# Altium footprint library ECSTXO25CSMV320AMTR.PcbLib: 1 footprints
Each footprint in its own frame and in the unit in brackets; x right, y up, seen from the top. Pads: shape width x height; smd on the part's side, far side on the other; paste and mask are expansions set on the pad; w line width, h text height; cw(c..) or ccw(c..) is an arc to the next point about the centre after c.
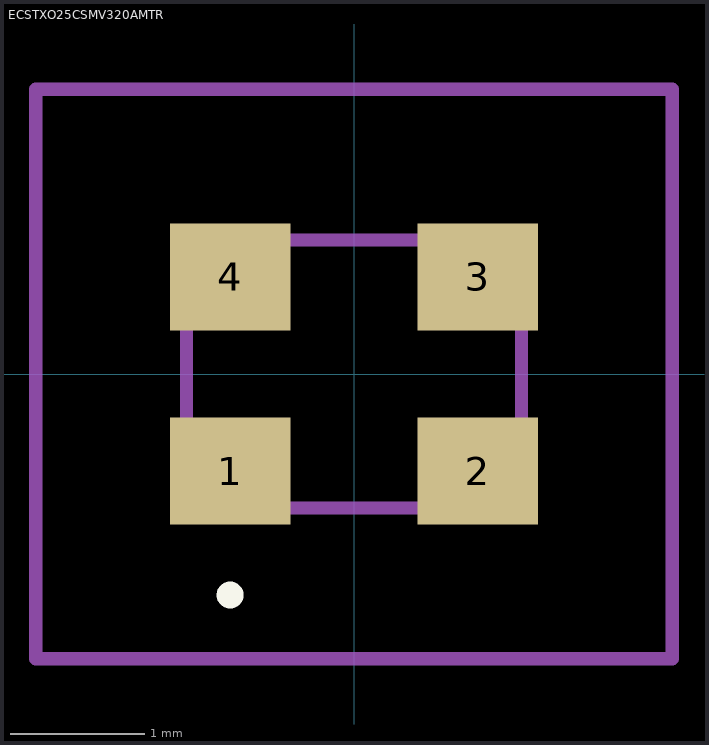
[diagram p0: the footprint, top view; thin cyan lines are the x and y axes]

## ECSTXO25CSMV320AMTR [mm]
pads (4):
  rect 0.9x0.8 smd: 1(-0.925,-0.725) 2(0.925,-0.725) 3(0.925,0.725) 4(-0.925,0.725)
Top Overlay:
  lines w0.1: -0.925,-1.7 cw(c-0.925,-1.65) -0.925,-1.6 ; -0.925,-1.7 -0.925,-1.7 ; -0.925,-1.7 ccw(c-0.925,-1.65) -0.925,-1.6 ; -0.925,-1.6 -0.925,-1.6
Mechanical 15:
  lines w0.1: -1.25,-1 1.25,-1 1.25,1 -1.25,1 -1.25,-1
Mechanical 20:
  lines w0.1: -2.375,-2.125 2.375,-2.125 2.375,2.125 -2.375,2.125 -2.375,-2.125